# Altium integrated library LM338.IntLib: 1 symbol
Pins are listed as number, name and electrical type; pins without a type are passive.

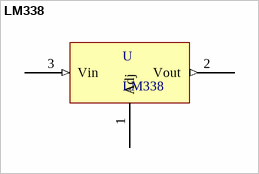
[diagram p0: symbol LM338]

## LM338
designator U
footprint PCBComponent_1
pins: 1 Adj, 2 Vout (out), 3 Vin (in)